# Altium schematic symbol library 0603 0R.Schlib: 1 symbol
Pins are listed as number, name and electrical type; pins without a type are passive.

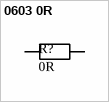
[diagram p0: symbol 0603 0R]

## 0603 0R
designator R?, comment value 0R  (hidden comment: Resistor)
- ±1% 0Ω 0.1W 0603 Chip Resistor - Surface Mount ROHS; LCSC Part #: C21189
footprint RES 0603_1608 (Chip Resistor, 2-Leads, Body 1.60x0.80mm, IPC Medium Density)
pins: 1, 2